# EAGLE library part SH67P847 (library SINO_WEALTH)
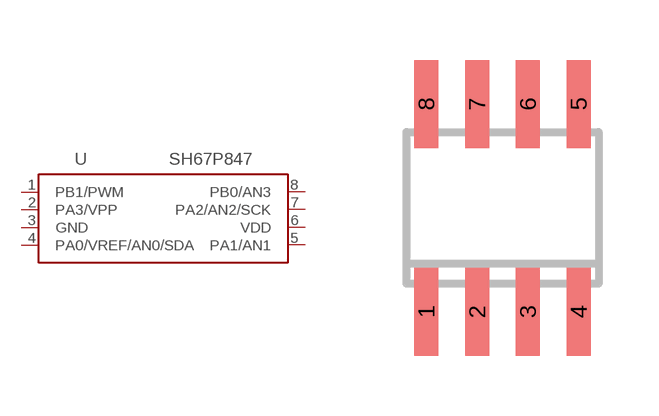
[diagram p0: symbol with the pads of SOIC8; footprint SOIC8]

Designator prefix -

## SH67P847  [SOIC8]
1  PB1/PWM
2  PA3/VPP
3  GND  pwr
4  PA0/VREF/AN0/SDA
5  PA1/AN1
6  VDD  pwr
7  PA2/AN2/SCK
8  PB0/AN3

## Footprint SOIC8 (pad centres in mm)
Small Outline IC
smd 0.6 x 2.2: 1 -1.905,-2.6; 2 -0.635,-2.6; 3 0.635,-2.6; 4 1.905,-2.6; 5 1.905,2.6; 6 0.635,2.6; 7 -0.635,2.6; 8 -1.905,2.6